# EAGLE library part BMS_VOLTAGE_SENSOR (library EL_POTENCIA_LIBRERIA_VES2018)
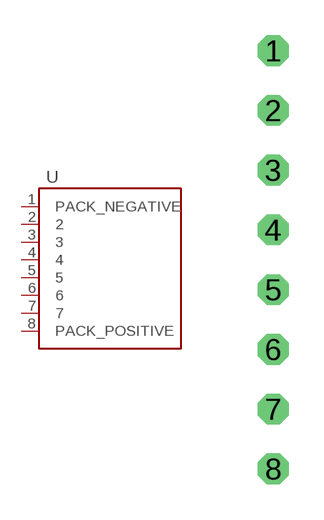
[diagram p8: symbol with the pads of BMS_VOLTAGE_SENSOR; footprint BMS_VOLTAGE_SENSOR]

Designator prefix -

## BMS_VOLTAGE_SENSOR  [BMS_VOLTAGE_SENSOR]
1  PACK_NEGATIVE
2  2
3  3
4  4
5  5
6  6
7  7
8  PACK_POSITIVE

## Footprint BMS_VOLTAGE_SENSOR (pad centres in mm)
drill 0.8 octagon: 1 0,8.89; 2 0,6.35; 3 0,3.81; 4 0,1.27; 5 0,-1.27; 6 0,-3.81; 7 0,-6.35; 8 0,-8.89